# Altium schematic symbol library 接口(座).SchLib: 16 symbols
Pins are listed as number, name and electrical type; pins without a type are passive.

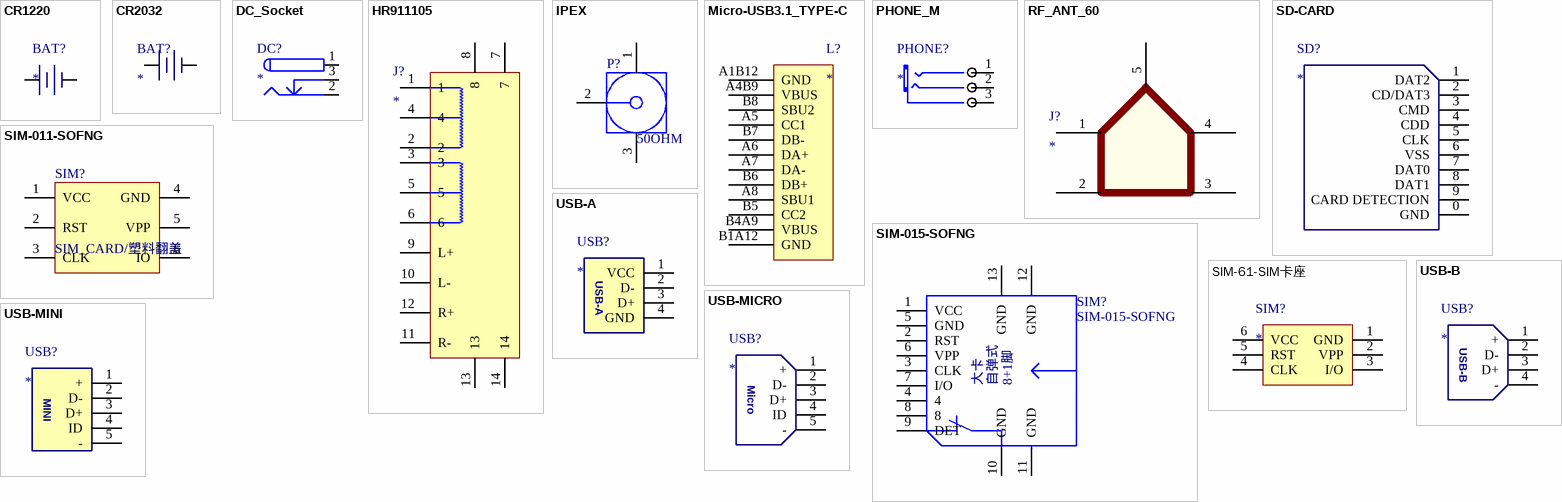
[diagram p0: symbols CR1220 to USB-MINI]

## CR1220
designator BAT?
纽扣电池座
footprint CR1220-A
footprint CR1220-B
pins: 1, 2

## CR2032
designator BAT?
纽扣电池座
footprint CR2032-A
footprint CR2032-B
pins: 1, 2

## DC_Socket
designator DC?
DC电源座
footprint DC-002 (3.5X1.1mm)
footprint DC-003 (3.5X1.1mm)
footprint DC-003A (3.5X1.1mm)
footprint DC-005 (5.5X2.1mm)
footprint DC-012 (5.5X2.1mm)
footprint DC-031A (3.5X1.3mm)
footprint DC-050 (5.5X2.1mm)
pins: 1 (power), 2 (power), 3 (power)

## HR911105
designator J?
网络插座
footprint HR911105A
pins: 1, 2, 3, 4, 5, 6, 7, 8, 9 L+, 10 L-, 11 R-, 12 R+, 13, 14

## IPEX
designator P?, comment 50OHM
天线座; PCB_Layout: Complies with manufacturer's recommendation.; DrillSize: Corresponds to nominal value.; Published: 15-Jul-2004; LatestRevisionDate: 15-Jul-2004; LatestRevisionNote: Component Replaced.; DatasheetDocument: 30-May-2003; PackageDocument: 04-Jul-1999; PackageReference: 919-119J-51AX; Publisher: Altium Limited; ComponentLink1Description: Manufacturer Link; ComponentLink1URL: http://www.amphenolrf.com/
footprint IPEX
pins: 1 "Signal Pin", 2 "Signal Pin", 3 "Signal Pin"

## Micro-USB3.1_TYPE-C
designator L?
footprint Type-C 16p  4固定贴片脚 (USB Type-C 插座 4固定插脚)
footprint Type-C 16p  4固定插脚 (USB Type-C 插座 4固定插脚)
pins: A1B12 GND, A4B9 VBUS, A5 CC1, A6 DA+, A7 DA-, A8 SBU1, B1A12 GND, B4A9 VBUS, B5 CC2, B6 DB+, B7 DB-, B8 SBU2

## PHONE_M
designator PHONE?
音频插座
footprint AUDIO_PHONE_ST
pins: 1 CHL, 2 CHR, 3 COM

## RF_ANT_60
designator J?
天线座
footprint SMA-KWE/90°
pins: 1, 2, 3, 4, 5

## SD-CARD
designator SD?
footprint SD-CARD-Micro
pins: 0 GND, 1 DAT2, 2 CD/DAT3, 3 CMD, 4 CDD, 5 CLK, 6 VSS, 7 DAT0, 8 DAT1, 9 CARD DETECTION

## SIM-011-SOFNG
designator SIM?, comment SIM_CARD/塑料翻盖
SIM卡座
footprint SIM-011-SOFNG
pins: 1 VCC, 2 RST, 3 CLK, 4 GND, 5 VPP, 6 IO

## SIM-015-SOFNG
designator SIM?
SIM卡座
footprint SIM-015-SOFNG
pins: 1 VCC, 2 RST, 3 CLK, 4, 5 GND, 6 VPP, 7 I/O, 8, 9 DET, 10 GND, 11 GND, 12 GND, 13 GND
text: 大卡; 自弹式; 8+1脚

## SIM-61-SIM卡座
designator SIM?
SIM卡座
footprint SIM-61-SIM卡座
pins: 1 GND, 2 VPP, 3 I/O, 4 CLK, 5 RST, 6 VCC

## USB-A
designator USB?
footprint USB-A/S_A
footprint USB-A/S_B
footprint USB-A/S_C
footprint USB-A/S_D
footprint USB-A/S_E
footprint USB-A/S_F
footprint USB_A/P_A
footprint USB_A/P_B
pins: 1 VCC, 2 D-, 3 D+, 4 GND

## USB-B
designator USB?
footprint USB-B/S_A
pins: 1 +, 2 D-, 3 D+, 4 -

## USB-MICRO
designator USB?
footprint USB-MICRO-DIP_A
footprint USB-MICRO-SMD_A
footprint USB-MICRO-SMD_B
footprint USB-MICRO-SMD_C
footprint USB-MICRO-SMD_D
footprint USB-MICRO-SMD_E
pins: 1 +, 2 D-, 3 D+, 4 ID, 5 -
text: Micro

## USB-MINI
designator USB?
footprint USB-MINI-A
pins: 1 +, 2 D-, 3 D+, 4 ID, 5 -
text: MINI